# Altium footprint library drvs-motor.PcbLib: 70 footprints (part 3 of 5)
Each footprint in its own frame and in the unit in brackets; x right, y up, seen from the top. Pads: shape width x height; smd on the part's side, far side on the other; paste and mask are expansions set on the pad; w line width, h text height; cw(c..) or ccw(c..) is an arc to the next point about the centre after c.
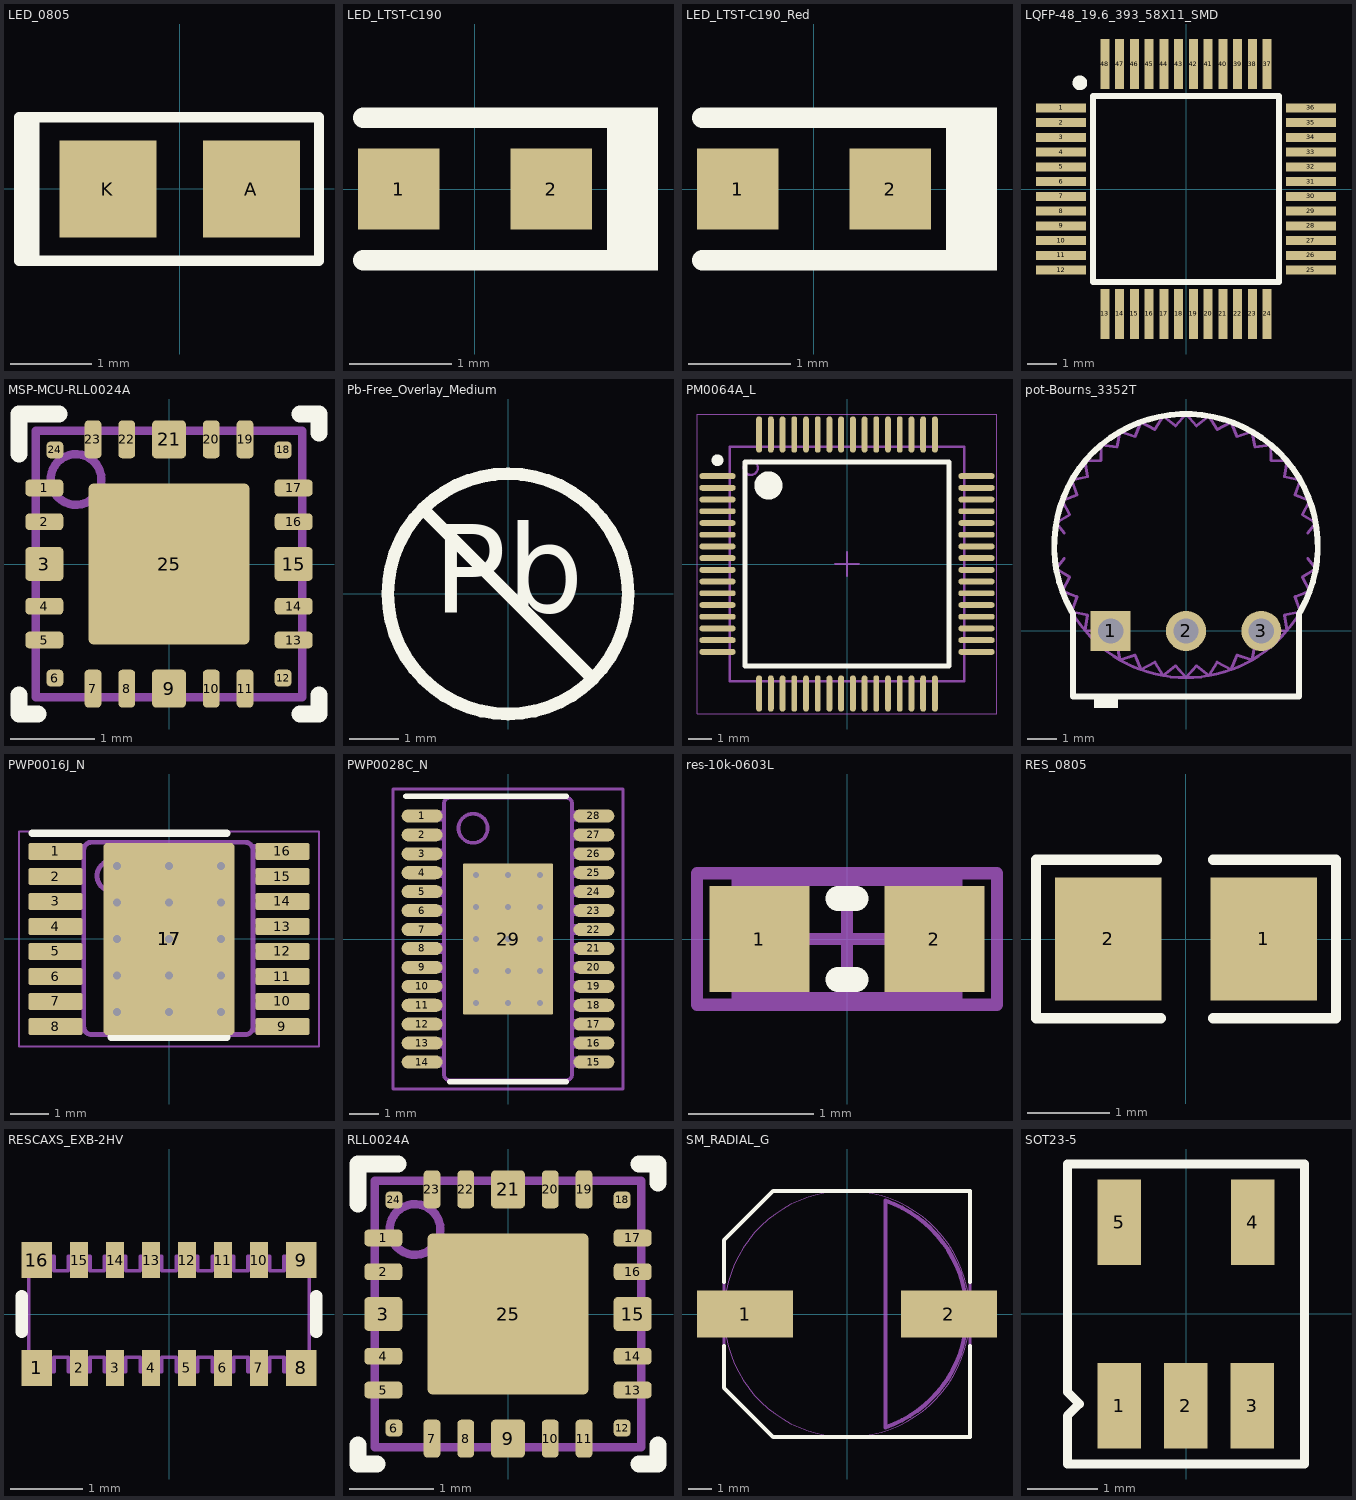
[diagram p2: the footprints below, top view; thin cyan lines are the x and y axes]

## LED_0805 [mm] "LED"
height 0.9
pads (2):
  rect 1.2x1.2 smd mask+0.076: A(0.889,0) K(-0.889,0)
Top Overlay:
  rectangle: -1.987,-0.889 -1.733,0.889
  lines w0.127: -1.987,-0.889 -1.987,0.889 1.725,0.889 1.725,-0.889 -1.987,-0.889
3D body "led_0805.step": height 1.1, standoff 0, extent -1.01,-0.625 1.01,0.625

## LED_LTST-C190 [mm]
pads (2):
  rect 0.8x0.8 smd: 1(-0.75,0) 2(0.75,0)
Top Overlay:
  region: 1.8,0.8 1.3,0.8 1.3,-0.8 1.8,-0.8
  lines w0.2: -1.1,-0.7 1.4,-0.7 ; -1.1,0.7 1.4,0.7
Mechanical 5:
  region: 1.8,0.75 1.3,0.75 1.3,-0.75 1.8,-0.75
  lines w0.1: -1.1,-0.7 1.4,-0.7 ; -1.1,0.7 1.4,0.7
  text ".Designator" at -1.2,-0.3 h0.64
3D body "Lite-On_LTST_C190.stp": height 0.9, standoff 0, extent -0.85,-0.45 0.85,0.45

## LED_LTST-C190_Red [mm]
pads (2):
  rect 0.8x0.8 smd: 1(-0.75,0) 2(0.75,0)
Top Overlay:
  region: 1.8,0.8 1.3,0.8 1.3,-0.8 1.8,-0.8
  lines w0.2: -1.1,-0.7 1.4,-0.7 ; -1.1,0.7 1.4,0.7
Mechanical 5:
  region: 1.8,0.75 1.3,0.75 1.3,-0.75 1.8,-0.75
  lines w0.1: -1.1,-0.7 1.4,-0.7 ; -1.1,0.7 1.4,0.7
  text ".Designator" at -1.2,-0.3 h0.64
3D body "Lite-On_LTST_C190_red.stp": height 0.9, standoff 0, extent -0.85,-0.45 0.85,0.45

## LQFP-48_19.6_393_58X11_SMD [mm] "48LQFP"
height 1.45
pads (48):
  rect 1.7x0.3 smd mask+0.076: 1(-4.238,2.75) 2(-4.238,2.25) 3(-4.238,1.75) 4(-4.238,1.25) 5(-4.238,0.75) 6(-4.238,0.25) 7(-4.238,-0.25) 8(-4.238,-0.75) 9(-4.238,-1.25) 10(-4.238,-1.75) 11(-4.238,-2.25) 12(-4.238,-2.75) 25(4.238,-2.75) 26(4.238,-2.25) 27(4.238,-1.75) 28(4.238,-1.25) 29(4.238,-0.75) 30(4.238,-0.25) 31(4.238,0.25) 32(4.238,0.75) 33(4.238,1.25) 34(4.238,1.75) 35(4.238,2.25) 36(4.238,2.75)
  rect 0.3x1.7 smd mask+0.076: 13(-2.75,-4.238) 14(-2.25,-4.238) 15(-1.75,-4.238) 16(-1.25,-4.238) 17(-0.75,-4.238) 18(-0.25,-4.238) 19(0.25,-4.238) 20(0.75,-4.238) 21(1.25,-4.238) 22(1.75,-4.238) 23(2.25,-4.238) 24(2.75,-4.238) 37(2.75,4.238) 38(2.25,4.238) 39(1.75,4.238) 40(1.25,4.238) 41(0.75,4.238) 42(0.25,4.238) 43(-0.25,4.238) 44(-0.75,4.238) 45(-1.25,4.238) 46(-1.75,4.238) 47(-2.25,4.238) 48(-2.75,4.238)
Top Overlay:
  circle w0.25: c-3.6,3.6 r0.125
  lines w0.2: -3.15,-3.15 3.15,-3.15 3.15,3.15 -3.15,3.15 -3.15,-3.15
3D body "STM32F103C8T6TR.stp": height 1.7, standoff 0.1, extent -4.5,-4.5 4.5,4.5

## MSP-MCU-RLL0024A [mm]
pads (26):
  rrect50% 0.45x0.2 smd: 1(-1.475,0.9) 2(-1.475,0.5) 4(-1.475,-0.5) 5(-1.475,-0.9) 13(1.475,-0.9) 14(1.475,-0.5) 16(1.475,0.5) 17(1.475,0.9)
  rrect25% 0.45x0.4 smd: 3(-1.475,0) 15(1.475,0)
  rrect50% 0.2x0.2 smd: 6(-1.35,-1.35) 12(1.35,-1.35) 18(1.35,1.35) 24(-1.35,1.35)
  rrect50% 0.2x0.45 smd: 7(-0.9,-1.475) 8(-0.5,-1.475) 10(0.5,-1.475) 11(0.9,-1.475) 19(0.9,1.475) 20(0.5,1.475) 22(-0.5,1.475) 23(-0.9,1.475)
  rrect25% 0.4x0.45 smd: 9(0,-1.475) 21(0,1.475)
  rrect5% 1.9x1.9 smd paste-1.9: 25(0,0)
  rrect50% 1.71x1.71 on Top Paste: ""(0,0)
Top Overlay:
  lines w0.2: -1.775,-1.55 -1.775,-1.775 -1.55,-1.775 ; -1.775,1.3 -1.775,1.775 -1.3,1.775 ; 1.55,-1.775 1.775,-1.775 1.775,-1.55 ; 1.55,1.775 1.775,1.775 1.775,1.55
Mechanical 5:
  circle w0.1: c-1.1,1 r0.3
  lines w0.1: -1.575,-1.575 1.575,-1.575 1.575,1.575 -1.575,1.575 -1.575,-1.575
  text ".Designator" at 0.7,-3.9 h1.52
3D body: height 1.01, standoff 1, extent -1.399,0.701 -0.801,1.299
3D body: height 1, standoff 0.08, extent -1.575,-1.575 1.575,1.575

## Pb-Free_Overlay_Medium [mm]
Top Overlay:
  circle w0.254: c0,0 r2.413
  lines w0.254: -1.706,1.706 1.706,-1.706
  text "Pb" at -1.505,-0.961 h3.05

## PM0064A_L [mm]
pads (64):
  oval 1.55x0.25 smd: 1(-5.525,3.75) 2(-5.525,3.25) 3(-5.525,2.75) 4(-5.525,2.25) 5(-5.525,1.75) 6(-5.525,1.25) 7(-5.525,0.75) 8(-5.525,0.25) 9(-5.525,-0.25) 10(-5.525,-0.75) 11(-5.525,-1.25) 12(-5.525,-1.75) 13(-5.525,-2.25) 14(-5.525,-2.75) 15(-5.525,-3.25) 16(-5.525,-3.75) 33(5.525,-3.75) 34(5.525,-3.25) 35(5.525,-2.75) 36(5.525,-2.25) 37(5.525,-1.75) 38(5.525,-1.25) 39(5.525,-0.75) 40(5.525,-0.25) 41(5.525,0.25) 42(5.525,0.75) 43(5.525,1.25) 44(5.525,1.75) 45(5.525,2.25) 46(5.525,2.75) 47(5.525,3.25) 48(5.525,3.75)
  oval 0.25x1.55 smd: 17(-3.75,-5.525) 18(-3.25,-5.525) 19(-2.75,-5.525) 20(-2.25,-5.525) 21(-1.75,-5.525) 22(-1.25,-5.525) 23(-0.75,-5.525) 24(-0.25,-5.525) 25(0.25,-5.525) 26(0.75,-5.525) 27(1.25,-5.525) 28(1.75,-5.525) 29(2.25,-5.525) 30(2.75,-5.525) 31(3.25,-5.525) 32(3.75,-5.525) 49(3.75,5.525) 50(3.25,5.525) 51(2.75,5.525) 52(2.25,5.525) 53(1.75,5.525) 54(1.25,5.525) 55(0.75,5.525) 56(0.25,5.525) 57(-0.25,5.525) 58(-0.75,5.525) 59(-1.25,5.525) 60(-1.75,5.525) 61(-2.25,5.525) 62(-2.75,5.525) 63(-3.25,5.525) 64(-3.75,5.525)
Top Overlay:
  circle w0.6: c-3.35,3.35 r0.3
  circle w0.25: c-5.525,4.425 r0.125
  lines w0.2: -4.35,-4.35 4.35,-4.35 4.35,4.35 -4.35,4.35 -4.35,-4.35
Mechanical 5:
  circle w0.1: c-4.1,4.1 r0.3
  lines w0.1: -5,-5 5,-5 5,5 -5,5 -5,-5
  text ".Designator" at -1.854,-0.508 h1.02
Mechanical 15:
  lines w0.05: -6.4,-6.4 6.4,-6.4 6.4,6.4 -6.4,6.4 -6.4,-6.4
  lines w0.1: -0.5,0 0.5,0 ; 0,-0.5 0,0.5
3D body: height 1.6, standoff 0, extent -5,-5 5,5
3D body: height 1.61, standoff 1, extent -4.399,3.801 -3.801,4.399

## pot-Bourns_3352T [mm]
pads (3):
  rect 1.35x1.35 hole 0.85: 1(-2.54,0)
  round 1.35 hole 0.85: 2(0,0) 3(2.54,0)
Top Overlay:
  region: -2.3,-2.6 -2.3,-2.2 -3.1,-2.2 -3.1,-2.6
  lines w0.2: -3.849,0.647 cw(c0,2.87) 3.849,0.647 ; -3.81,0.58 -3.81,-2.21 3.81,-2.21 3.81,0.58
Mechanical 5:
  lines w0.1: -4.105,2.44 -4.377,2.098 ; -4.105,3.3 -4.377,3.642 ; -3.81,0.58 -3.81,-2.21 3.81,-2.21 3.81,0.58 ; 4.105,2.44 4.377,2.098 ; 4.105,3.3 4.377,3.642 ; -4.377,2.098 ccw(c0,2.87) -4.177,1.35 ; -4.377,2.098 cw(c0,2.87) -4.377,3.642 ; -4.377,2.098 -3.922,1.819 -4.177,1.35 ; -4.377,3.642 cw(c0,2.87) -4.177,4.39 ; -4.377,3.642 -3.922,3.921 -4.177,4.39 ; -4.177,1.35 ccw(c0,2.87) -3.849,0.647 ; -4.177,1.35 -3.68,1.154 -3.849,0.647 ; -4.177,4.39 cw(c0,2.87) -3.849,5.093 ; -4.177,4.39 -3.68,4.586 -3.849,5.092 ; -3.849,0.647 ccw(c0,2.87) -3.405,0.013 ; -3.849,0.647 -3.326,0.541 -3.405,0.013 ; -3.849,5.093 cw(c0,2.87) -3.405,5.727 ; -3.849,5.092 -3.326,5.199 -3.405,5.727 ; -3.405,0.013 ccw(c0,2.87) -2.857,-0.535 ; -3.405,0.013 -2.871,-0.001 -2.857,-0.535 ; -3.405,5.727 cw(c0,2.87) -2.857,6.275 ; -3.405,5.727 -2.871,5.741 -2.857,6.275 ; -2.857,-0.535 ccw(c0,2.87) -2.223,-0.979 ; -2.857,-0.535 -2.329,-0.456 -2.222,-0.979 ; -2.857,6.275 cw(c0,2.87) -2.223,6.719 ; -2.857,6.275 -2.329,6.196 -2.222,6.719 ; -2.223,-0.979 ccw(c0,2.87) -1.52,-1.307 ; -2.222,-0.979 -1.716,-0.81 -1.52,-1.307 ; -2.223,6.719 cw(c0,2.87) -1.52,7.047 ; -2.222,6.719 -1.716,6.55 -1.52,7.047 ; -1.52,-1.307 ccw(c0,2.87) -0.772,-1.507 ; -1.52,-1.307 -1.051,-1.052 -0.772,-1.507 ; -1.52,7.047 cw(c0,2.87) -0.772,7.247 ; -1.52,7.047 -1.051,6.792 -0.772,7.247 ; -0.772,-1.507 ccw(c0,2.87) 0,-1.575 ; -0.772,-1.507 -0.354,-1.175 0,-1.575 ; -0.772,7.247 cw(c0,2.87) 0,7.315 ; -0.772,7.247 -0.354,6.915 0,7.315 ; 0,-1.575 ccw(c0,2.87) 0.772,-1.507 ; 0,-1.575 0.354,-1.175 0.772,-1.507 ; 0,7.315 cw(c0,2.87) 0.772,7.247 ; 0,7.315 0.354,6.915 0.772,7.247 ; 0.772,-1.507 ccw(c0,2.87) 1.52,-1.307 ; 0.772,-1.507 1.051,-1.052 1.52,-1.307 ; 0.772,7.247 cw(c0,2.87) 1.52,7.047 ; 0.772,7.247 1.051,6.792 1.52,7.047 ; 1.52,-1.307 ccw(c0,2.87) 2.223,-0.979 ; 1.52,-1.307 1.716,-0.81 2.222,-0.979 ; 1.52,7.047 cw(c0,2.87) 2.223,6.719 ; 1.52,7.047 1.716,6.55 2.222,6.719 ; 2.223,-0.979 ccw(c0,2.87) 2.857,-0.535 ; 2.222,-0.979 2.329,-0.456 2.857,-0.535 ; 2.223,6.719 cw(c0,2.87) 2.857,6.275 ; 2.222,6.719 2.329,6.196 2.857,6.275 ; 2.857,-0.535 ccw(c0,2.87) 3.405,0.013 ; 2.857,-0.535 2.871,-0.001 3.405,0.013 ; 2.857,6.275 cw(c0,2.87) 3.405,5.727 ; 2.857,6.275 2.871,5.741 3.405,5.727 ; 3.405,0.013 ccw(c0,2.87) 3.849,0.647 ; 3.405,0.013 3.326,0.541 3.849,0.647 ; 3.405,5.727 cw(c0,2.87) 3.849,5.093 ; 3.405,5.727 3.326,5.199 3.849,5.092 ; 3.849,0.647 ccw(c0,2.87) 4.177,1.35 ; 3.849,0.647 3.68,1.154 4.177,1.35 ; 3.849,5.093 cw(c0,2.87) 4.177,4.39 ; 3.849,5.092 3.68,4.586 4.177,4.39 ; 4.177,1.35 ccw(c0,2.87) 4.377,2.098 ; 4.177,1.35 3.922,1.819 4.377,2.098 ; 4.177,4.39 cw(c0,2.87) 4.377,3.642 ; 4.177,4.39 3.922,3.921 4.377,3.642 ; 4.377,2.098 ccw(c0,2.87) 4.377,3.642
  text ".Designator" at -2,2 h1.02
3D body "3352T.stp": height 3.81, standoff -4.75, extent -4.445,-2.21 4.445,7.315

## PWP0016J_N [mm]
pads (19):
  rrect22% 1.4x0.45 smd: 1(-2.95,2.275) 2(-2.95,1.625) 3(-2.95,0.975) 4(-2.95,0.325) 5(-2.95,-0.325) 6(-2.95,-0.975) 7(-2.95,-1.625) 8(-2.95,-2.275) 9(2.95,-2.275) 10(2.95,-1.625) 11(2.95,-0.975) 12(2.95,-0.325) 13(2.95,0.325) 14(2.95,0.975) 15(2.95,1.625) 16(2.95,2.275)
  rrect6% 3.4x5 smd paste-1.7 mask-1.7: 17(0,0)
  rrect50% 2.46x3.55 on Top Paste: 17(0,0)
  rrect50% 2.46x3.55 on Top Solder: 17(0,0)
via 0,0 diameter 0.5 hole 0.2
via 0,-0.95 diameter 0.5 hole 0.2
via 0,0.95 diameter 0.5 hole 0.2
via 0,1.9 diameter 0.5 hole 0.2
via 0,-1.9 diameter 0.5 hole 0.2
via 1.35,-1.9 diameter 0.5 hole 0.2
via 1.35,1.9 diameter 0.5 hole 0.2
via 1.35,0.95 diameter 0.5 hole 0.2
via 1.35,-0.95 diameter 0.5 hole 0.2
via 1.35,0 diameter 0.5 hole 0.2
via -1.35,-0.95 diameter 0.5 hole 0.2
via -1.35,1.9 diameter 0.5 hole 0.2
via -1.35,-1.9 diameter 0.5 hole 0.2
via -1.35,0 diameter 0.5 hole 0.2
via -1.35,0.95 diameter 0.5 hole 0.2
Top Overlay:
  lines w0.2: -3.55,2.75 1.5,2.75 ; -1.5,-2.55 1.5,-2.55
Mechanical 5:
  drawing of 202 lines, arcs and shapes, not listed
  text ".Designator" at -0.5,1.85 h1.02
Mechanical 15:
  lines w0.05: -3.9,-2.8 3.9,-2.8 3.9,2.8 -3.9,2.8 -3.9,-2.8
  lines w0.1: -0.5,0 0.5,0 ; 0,-0.5 0,0.5
3D body "PWP0016J.stp": height 1.13, standoff 0, extent -3.2,-2.5 3.2,2.5

## PWP0028C_N [mm]
pads (29):
  rrect100% 1.4x0.45 smd: 1(-2.95,4.225) 2(-2.95,3.575) 3(-2.95,2.925) 4(-2.95,2.275) 5(-2.95,1.625) 6(-2.95,0.975) 7(-2.95,0.325) 8(-2.95,-0.325) 9(-2.95,-0.975) 10(-2.95,-1.625) 11(-2.95,-2.275) 12(-2.95,-2.925) 13(-2.95,-3.575) 14(-2.95,-4.225) 15(2.95,-4.225) 16(2.95,-3.575) 17(2.95,-2.925) 18(2.95,-2.275) 19(2.95,-1.625) 20(2.95,-0.975) 21(2.95,-0.325) 22(2.95,0.325) 23(2.95,0.975) 24(2.95,1.625) 25(2.95,2.275) 26(2.95,2.925) 27(2.95,3.575) 28(2.95,4.225)
  rrect3% 3.1x5.18 smd: 29(0,0)
via 1.1,-1.1 diameter 0.5 hole 0.2
via 0,-1.1 diameter 0.5 hole 0.2
via -1.1,-1.1 diameter 0.5 hole 0.2
via -1.1,-2.2 diameter 0.5 hole 0.2
via 0,-2.2 diameter 0.5 hole 0.2
via 1.1,-2.2 diameter 0.5 hole 0.2
via 1.1,2.2 diameter 0.5 hole 0.2
via 0,2.2 diameter 0.5 hole 0.2
via -1.1,2.2 diameter 0.5 hole 0.2
via -1.1,0 diameter 0.5 hole 0.2
via -1.1,1.1 diameter 0.5 hole 0.2
via 0,1.1 diameter 0.5 hole 0.2
via 1.1,1.1 diameter 0.5 hole 0.2
via 1.1,0 diameter 0.5 hole 0.2
via 0,0 diameter 0.5 hole 0.2
Top Overlay:
  lines w0.2: -3.5,4.9 2,4.9 ; -2,-4.9 2,-4.9
Mechanical 5:
  drawing of 346 lines, arcs and shapes, not listed
  text ".Designator" at -1.854,-0.508 h1.02
Mechanical 15:
  lines w0.1: -3.95,-5.15 3.95,-5.15 3.95,5.15 -3.95,5.15 -3.95,-5.15 ; -0.5,0 0.5,0 -0.5,0 ; 0,-0.5 0,0.5 0,-0.5
3D body "PW0028AakaMTC28.stp": height 0.98, standoff -0.02, extent -3.21,-4.85 3.21,4.85

## res-10k-0603L [mm]
pads (2):
  rect 0.8x0.85 smd: 1(-0.7,0) 2(0.7,0)
Top Overlay:
  lines w0.2: -0.071,-0.325 0.071,-0.325 ; -0.071,0.325 0.071,0.325
Mechanical 5:
  lines w0.1: -1.2,-0.525 1.2,-0.525 1.2,0.525 -1.2,0.525 -1.2,-0.525
  text ".Designator" at -1.05,-0.275 h0.56
Mechanical 13:
  lines w0.1: -0.55,-0.475 -0.55,0.475 ; 0.55,-0.475 0.55,0.475 ; -0.875,-0.475 0.875,-0.475 0.875,0.475 -0.875,0.475 -0.875,-0.475
Mechanical 15:
  lines w0.1: -0.475,0 0.475,0 ; 0,-0.475 0,0.475 ; -1.2,-0.525 -1.2,0.525 1.2,0.525 1.2,-0.525 -1.2,-0.525
3D body: height 1, standoff 0, extent -0.874,-0.474 -0.551,0.474
3D body: height 1, standoff 0, extent -0.549,-0.474 0.549,0.474
3D body: height 1, standoff 0, extent 0.551,-0.474 0.874,0.474

## RES_0805 [mm] "Resister"
height 0.65
pads (2):
  rect 1.3x1.5 smd mask+0.076: 1(0.95,0) 2(-0.95,0)
Top Overlay:
  lines w0.127: -0.356,0.965 -1.829,0.965 -1.829,-0.965 -0.305,-0.965 ; 0.33,-0.965 1.829,-0.965 1.829,0.965 0.33,0.965
3D body "RES0805.stp": height 0.5, standoff 0, extent -1,-0.63 1,0.62

## RESCAXS_EXB-2HV [mm]
pads (16):
  rect 0.425x0.5 smd mask+0.07: 1(-1.837,-0.75) 8(1.837,-0.75) 9(1.837,0.75) 16(-1.837,0.75)
  rect 0.25x0.5 smd mask+0.07: 2(-1.25,-0.75) 3(-0.75,-0.75) 4(-0.25,-0.75) 5(0.25,-0.75) 6(0.75,-0.75) 7(1.25,-0.75) 10(1.25,0.75) 11(0.75,0.75) 12(0.25,0.75) 13(-0.25,0.75) 14(-0.75,0.75) 15(-1.25,0.75)
Top Overlay:
  lines w0.17: -2.05,-0.25 -2.05,0.25 ; 2.05,-0.25 2.05,0.25
Mechanical 5:
  lines w0.05: -1.95,-0.8 -1.95,0.8 -1.6,0.8 -1.6,0.6 -1.4,0.6 -1.4,0.8 -1.1,0.8 -1.1,0.6 -0.9,0.6 -0.9,0.8 -0.6,0.8 -0.6,0.6 -0.4,0.6 -0.4,0.8 -0.1,0.8 -0.1,0.6 0.1,0.6 0.1,0.8 0.4,0.8 0.4,0.6 0.6,0.6 0.6,0.8 0.9,0.8 0.9,0.6 1.1,0.6 1.1,0.8 1.4,0.8 1.4,0.6 1.6,0.6 1.6,0.8 1.95,0.8 1.95,-0.8 1.6,-0.8 1.6,-0.6 1.4,-0.6 1.4,-0.8 1.1,-0.8 1.1,-0.6 0.9,-0.6 0.9,-0.8 0.6,-0.8 0.6,-0.6 0.4,-0.6 0.4,-0.8 0.1,-0.8 0.1,-0.6 -0.1,-0.6 -0.1,-0.8 -0.4,-0.8 -0.4,-0.6 -0.6,-0.6 -0.6,-0.8 -0.9,-0.8 -0.9,-0.6 -1.1,-0.6 -1.1,-0.8 -1.4,-0.8 -1.4,-0.6 -1.6,-0.6 -1.6,-0.8 -1.95,-0.8
  text ".Designator" at -0.9,-0.25 h0.5
3D body: height 0.55, standoff 0, extent -1.949,-0.799 1.949,0.799
3D body: height 0.55, standoff 0.52, extent -1.949,-0.449 1.949,0.449

## RLL0024A [mm]
pads (26):
  rrect50% 0.45x0.2 smd: 1(-1.475,0.9) 2(-1.475,0.5) 4(-1.475,-0.5) 5(-1.475,-0.9) 13(1.475,-0.9) 14(1.475,-0.5) 16(1.475,0.5) 17(1.475,0.9)
  rrect25% 0.45x0.4 smd: 3(-1.475,0) 15(1.475,0)
  rrect50% 0.2x0.2 smd: 6(-1.35,-1.35) 12(1.35,-1.35) 18(1.35,1.35) 24(-1.35,1.35)
  rrect50% 0.2x0.45 smd: 7(-0.9,-1.475) 8(-0.5,-1.475) 10(0.5,-1.475) 11(0.9,-1.475) 19(0.9,1.475) 20(0.5,1.475) 22(-0.5,1.475) 23(-0.9,1.475)
  rrect25% 0.4x0.45 smd: 9(0,-1.475) 21(0,1.475)
  rrect5% 1.9x1.9 smd paste-1.9: 25(0,0)
  rrect50% 1.71x1.71 on Top Paste: ""(0,0)
Top Overlay:
  lines w0.2: -1.775,-1.55 -1.775,-1.775 -1.55,-1.775 ; -1.775,1.3 -1.775,1.775 -1.3,1.775 ; 1.55,-1.775 1.775,-1.775 1.775,-1.55 ; 1.55,1.775 1.775,1.775 1.775,1.55
Mechanical 5:
  circle w0.1: c-1.1,1 r0.3
  lines w0.1: -1.575,-1.575 1.575,-1.575 1.575,1.575 -1.575,1.575 -1.575,-1.575
  text ".Designator" at 0.7,-3.9 h1.52
3D body: height 1.01, standoff 1, extent -1.399,0.701 -0.801,1.299
3D body: height 1, standoff 0.08, extent -1.575,-1.575 1.575,1.575

## SM_RADIAL_G [mm]
pads (2):
  rect 4.1x2 smd: 1(-4.35,0) 2(4.35,0)
Top Overlay:
  lines w0.178: -5.25,-1.362 -5.25,-3.15 -3.15,-5.25 5.251,-5.25 ; -5.25,1.362 -5.25,3.15 -3.15,5.25 5.251,5.25 ; 5.25,-5.253 5.25,-1.366 ; 5.25,1.366 5.25,5.253
Mechanical 5:
  lines w0.127: 5.25,-5.25 5.25,5.253 ; 5.251,-5.25 -3.15,-5.25 -5.25,-3.15 -5.25,3.15 -3.15,5.25 5.251,5.25
  text ".Designator" at -1.7,-0.5 h1.02
Mechanical 13:
  circle w0.001: c0,0 r5.25
  lines w0.178: 1.638,4.837 cw(c0,0) 1.641,-4.836 ; 1.642,-4.836 1.642,4.837
3D body: height 0.6, standoff 0, extent -5.251,-5.253 5.252,5.253
3D body: height 10.5, standoff 0.1, extent -5.249,-5.249 5.249,5.249
3D body: height 10.5, standoff 10.4, extent 1.642,-4.835 5.106,4.835

## SOT23-5 [mm] "CASE: SOT"
height 1.1
pads (5):
  rect 0.62x1.22 smd mask+0.076: 1(-0.953,-1.31) 2(-0.003,-1.31) 3(0.947,-1.31) 4(0.952,1.31) 5(-0.953,1.31)
Top Overlay:
  lines w0.127: -1.689,-2.138 -1.689,-1.452 -1.519,-1.281 -1.689,-1.111 -1.689,2.137 1.689,2.137 1.689,-2.138 -1.689,-2.138
3D body "User Library-SOT-23-5.STEP": height 1.41, standoff -0.05, extent -1.5,-1.5 1.5,1.5